# Altium schematic symbol library ubloxLib.SchLib: 59 symbols (part 2 of 2)
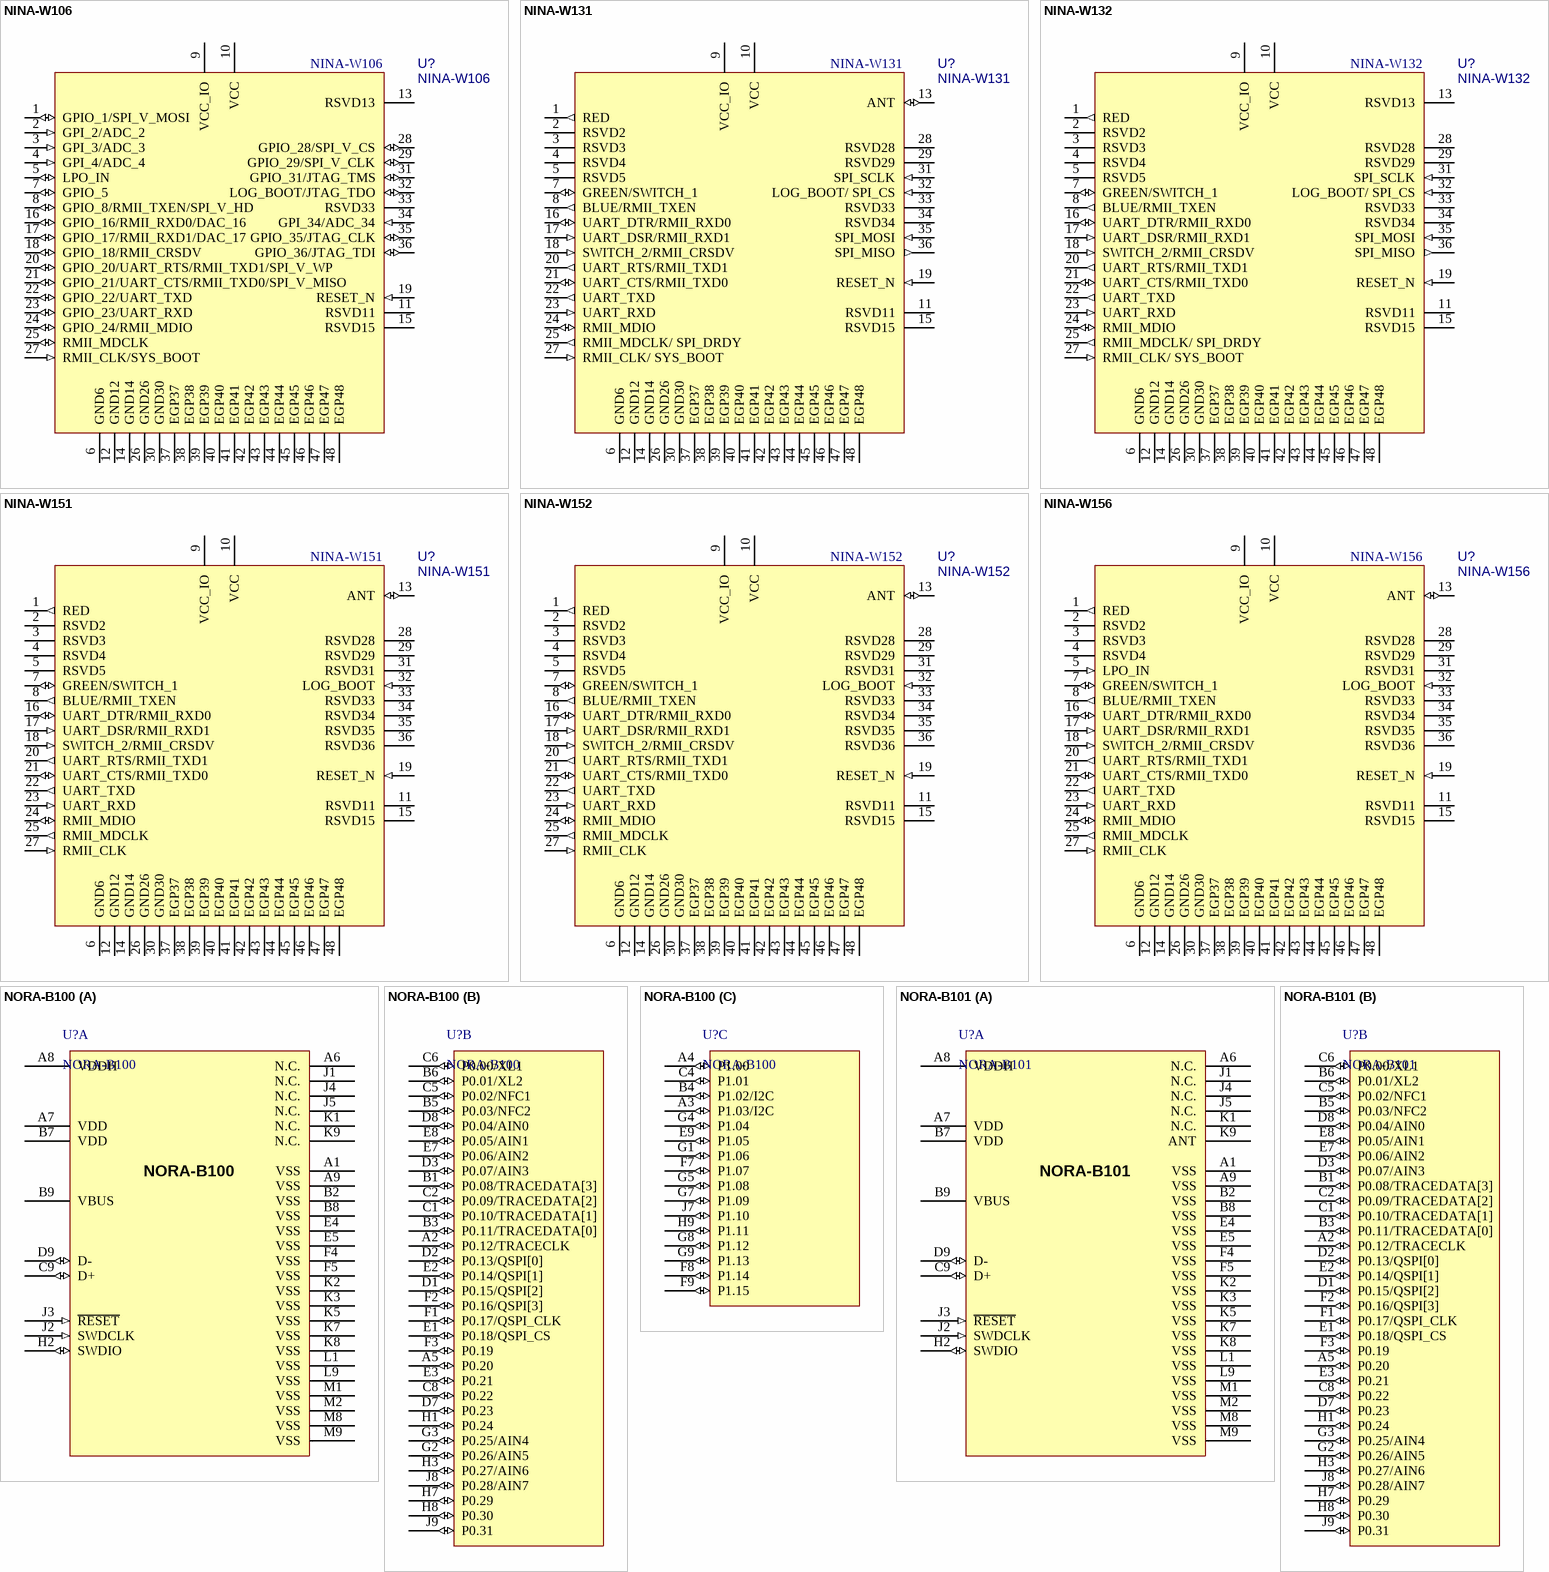
[diagram p10: symbols NINA-W106 to NORA-B101]

## NINA-W132
designator U?
u-blox NINA-W1312WiFi module; Part Description: Stand-alone Bluetooth low energy module; Manufacturer: u-blox; Value: NINA-W132
footprint NINA_LGA48R_1400X1000X380_PIFA (Stand-alone Bluetooth low energy module)
pins: 1 RED (out), 2 RSVD2, 3 RSVD3, 4 RSVD4, 5 RSVD5, 6 GND6 (power), 7 GREEN/SWITCH_1 (io), 8 BLUE/RMII_TXEN (out), 9 VCC_IO (power), 10 VCC (power), 11 RSVD11, 12 GND12 (power), 13 RSVD13, 14 GND14 (power), 15 RSVD15, 16 UART_DTR/RMII_RXD0 (io), 17 UART_DSR/RMII_RXD1 (in), 18 SWITCH_2/RMII_CRSDV (in), 19 RESET_N (in), 20 UART_RTS/RMII_TXD1 (out), 21 UART_CTS/RMII_TXD0 (io), 22 UART_TXD (out), 23 UART_RXD (in), 24 RMII_MDIO (io), 25 RMII_MDCLK/ SPI_DRDY (out), 26 GND26 (power), 27 RMII_CLK/ SYS_BOOT (in), 28 RSVD28, 29 RSVD29, 30 GND30 (power), 31 SPI_SCLK (in), 32 LOG_BOOT/ SPI_CS (in), 33 RSVD33, 34 RSVD34, 35 SPI_MOSI (in), 36 SPI_MISO (out), 37 EGP37 (power), 38 EGP38 (power), 39 EGP39 (power), 40 EGP40 (power), 41 EGP41 (power), 42 EGP42 (power), 43 EGP43 (power), 44 EGP44 (power), 45 EGP45 (power), 46 EGP46 (power), 47 EGP47 (power), 48 EGP48 (power)

## NINA-W151
designator U?
u-blox NINA-W151 WiFi, Bluetooth dual-mode module; Part Description: Stand-alone Bluetooth low energy module; Manufacturer: u-blox; Value: NINA-W151
footprint NINA_LGA48R_1060X1000X220_PIN (Stand-alone Bluetooth low energy module)
pins: 1 RED (out), 2 RSVD2, 3 RSVD3, 4 RSVD4, 5 RSVD5, 6 GND6 (power), 7 GREEN/SWITCH_1 (io), 8 BLUE/RMII_TXEN (out), 9 VCC_IO (power), 10 VCC (power), 11 RSVD11, 12 GND12 (power), 13 ANT (io), 14 GND14 (power), 15 RSVD15, 16 UART_DTR/RMII_RXD0 (io), 17 UART_DSR/RMII_RXD1 (in), 18 SWITCH_2/RMII_CRSDV (in), 19 RESET_N (in), 20 UART_RTS/RMII_TXD1 (out), 21 UART_CTS/RMII_TXD0 (io), 22 UART_TXD (out), 23 UART_RXD (in), 24 RMII_MDIO (io), 25 RMII_MDCLK (out), 26 GND26 (power), 27 RMII_CLK (in), 28 RSVD28, 29 RSVD29, 30 GND30 (power), 31 RSVD31, 32 LOG_BOOT (in), 33 RSVD33, 34 RSVD34, 35 RSVD35, 36 RSVD36, 37 EGP37 (power), 38 EGP38 (power), 39 EGP39 (power), 40 EGP40 (power), 41 EGP41 (power), 42 EGP42 (power), 43 EGP43 (power), 44 EGP44 (power), 45 EGP45 (power), 46 EGP46 (power), 47 EGP47 (power), 48 EGP48 (power)

## NINA-W152
designator U?
u-blox NINA-W152 WiFi, Bluetooth dual-mode module; Part Description: Stand-alone Bluetooth low energy module; Manufacturer: u-blox; Value: NINA-W152
footprint NINA_LGA48R_1400X1000X380_PIFA (Stand-alone Bluetooth low energy module)
pins: 1 RED (out), 2 RSVD2, 3 RSVD3, 4 RSVD4, 5 RSVD5, 6 GND6 (power), 7 GREEN/SWITCH_1 (io), 8 BLUE/RMII_TXEN (out), 9 VCC_IO (power), 10 VCC (power), 11 RSVD11, 12 GND12 (power), 13 ANT (io), 14 GND14 (power), 15 RSVD15, 16 UART_DTR/RMII_RXD0 (io), 17 UART_DSR/RMII_RXD1 (in), 18 SWITCH_2/RMII_CRSDV (in), 19 RESET_N (in), 20 UART_RTS/RMII_TXD1 (out), 21 UART_CTS/RMII_TXD0 (io), 22 UART_TXD (out), 23 UART_RXD (in), 24 RMII_MDIO (io), 25 RMII_MDCLK (out), 26 GND26 (power), 27 RMII_CLK (in), 28 RSVD28, 29 RSVD29, 30 GND30 (power), 31 RSVD31, 32 LOG_BOOT (in), 33 RSVD33, 34 RSVD34, 35 RSVD35, 36 RSVD36, 37 EGP37 (power), 38 EGP38 (power), 39 EGP39 (power), 40 EGP40 (power), 41 EGP41 (power), 42 EGP42 (power), 43 EGP43 (power), 44 EGP44 (power), 45 EGP45 (power), 46 EGP46 (power), 47 EGP47 (power), 48 EGP48 (power)

## NINA-W156
designator U?
u-blox NINA-W156 WiFi, Bluetooth dual-mode module; Part Description: Stand-alone Bluetooth low energy module; Manufacturer: u-blox; Value: NINA-W156
footprint NINA_LGA48R_1400X1000X380_PIFA (Stand-alone Bluetooth low energy module)
pins: 1 RED (out), 2 RSVD2, 3 RSVD3, 4 RSVD4, 5 LPO_IN (in), 6 GND6 (power), 7 GREEN/SWITCH_1 (io), 8 BLUE/RMII_TXEN (out), 9 VCC_IO (power), 10 VCC (power), 11 RSVD11, 12 GND12 (power), 13 ANT (io), 14 GND14 (power), 15 RSVD15, 16 UART_DTR/RMII_RXD0 (io), 17 UART_DSR/RMII_RXD1 (in), 18 SWITCH_2/RMII_CRSDV (in), 19 RESET_N (in), 20 UART_RTS/RMII_TXD1 (out), 21 UART_CTS/RMII_TXD0 (io), 22 UART_TXD (out), 23 UART_RXD (in), 24 RMII_MDIO (io), 25 RMII_MDCLK (out), 26 GND26 (power), 27 RMII_CLK (in), 28 RSVD28, 29 RSVD29, 30 GND30 (power), 31 RSVD31, 32 LOG_BOOT (in), 33 RSVD33, 34 RSVD34, 35 RSVD35, 36 RSVD36, 37 EGP37 (power), 38 EGP38 (power), 39 EGP39 (power), 40 EGP40 (power), 41 EGP41 (power), 42 EGP42 (power), 43 EGP43 (power), 44 EGP44 (power), 45 EGP45 (power), 46 EGP46 (power), 47 EGP47 (power), 48 EGP48 (power)

## NORA-B100
designator U?
u-blox NORA-B100 Bluetooth 5.2 LE module - dual core; Manufacturer P/N: NORA-B100-00B; Part Description: Stand-alone Bluetooth low energy module - dual core; Body Size: 14.3 mm x 10.4 mm; Part Number: NORA-B100; Part Name: NORA-B100; Part_Type: Module; Manufacturer: u-blox; Height: 1.8 mm; Value: NORA-B100
footprint NORA_LGA82R_1430X1040X180_UFL (NORA LGA, 82pin ,1.1mm Pitch, 14.3mm x 10.4mm)
part A pins: A1 VSS (power), A6 N.C. (hiz), A7 VDD (power), A8 VDDH (power), A9 VSS (power), B2 VSS (power), B7 VDD (power), B8 VSS (power), B9 VBUS (power), C9 D+ (io), D9 D- (io), E4 VSS (power), E5 VSS (power), F4 VSS (power), F5 VSS (power), H2 SWDIO (io), J1 N.C. (hiz), J2 SWDCLK (in), J3 ~{RESET} (in), J4 N.C. (hiz), J5 N.C. (hiz), K1 N.C. (hiz), K2 VSS (power), K3 VSS (power), K5 VSS (power), K7 VSS (power), K8 VSS (power), K9 N.C. (hiz), L1 VSS (power), L9 VSS (power), M1 VSS (power), M2 VSS (power), M8 VSS (power), M9 VSS (power)
part B pins: A2 P0.12/TRACECLK (io), A5 P0.20 (io), B1 P0.08/TRACEDATA[3] (io), B3 P0.11/TRACEDATA[0] (io), B5 P0.03/NFC2 (io), B6 P0.01/XL2 (io), C1 P0.10/TRACEDATA[1] (io), C2 P0.09/TRACEDATA[2] (io), C5 P0.02/NFC1 (io), C6 P0.00/XL1 (io), C8 P0.22 (io), D1 P0.15/QSPI[2] (io), D2 P0.13/QSPI[0] (io), D3 P0.07/AIN3 (io), D7 P0.23 (io), D8 P0.04/AIN0 (io), E1 P0.18/QSPI_CS (io), E2 P0.14/QSPI[1] (io), E3 P0.21 (io), E7 P0.06/AIN2 (io), E8 P0.05/AIN1 (io), F1 P0.17/QSPI_CLK (io), F2 P0.16/QSPI[3] (io), F3 P0.19 (io), G2 P0.26/AIN5 (io), G3 P0.25/AIN4 (io), H1 P0.24 (io), H3 P0.27/AIN6 (io), H7 P0.29 (io), H8 P0.30 (io), J8 P0.28/AIN7 (io), J9 P0.31 (io)
part C pins: A3 P1.03/I2C (io), A4 P1.00 (io), B4 P1.02/I2C (io), C4 P1.01 (io), E9 P1.05 (io), F7 P1.07 (io), F8 P1.14 (io), F9 P1.15 (io), G1 P1.06 (io), G4 P1.04 (io), G5 P1.08 (io), G7 P1.09 (io), G8 P1.12 (io), G9 P1.13 (io), H9 P1.11 (io), J7 P1.10 (io)

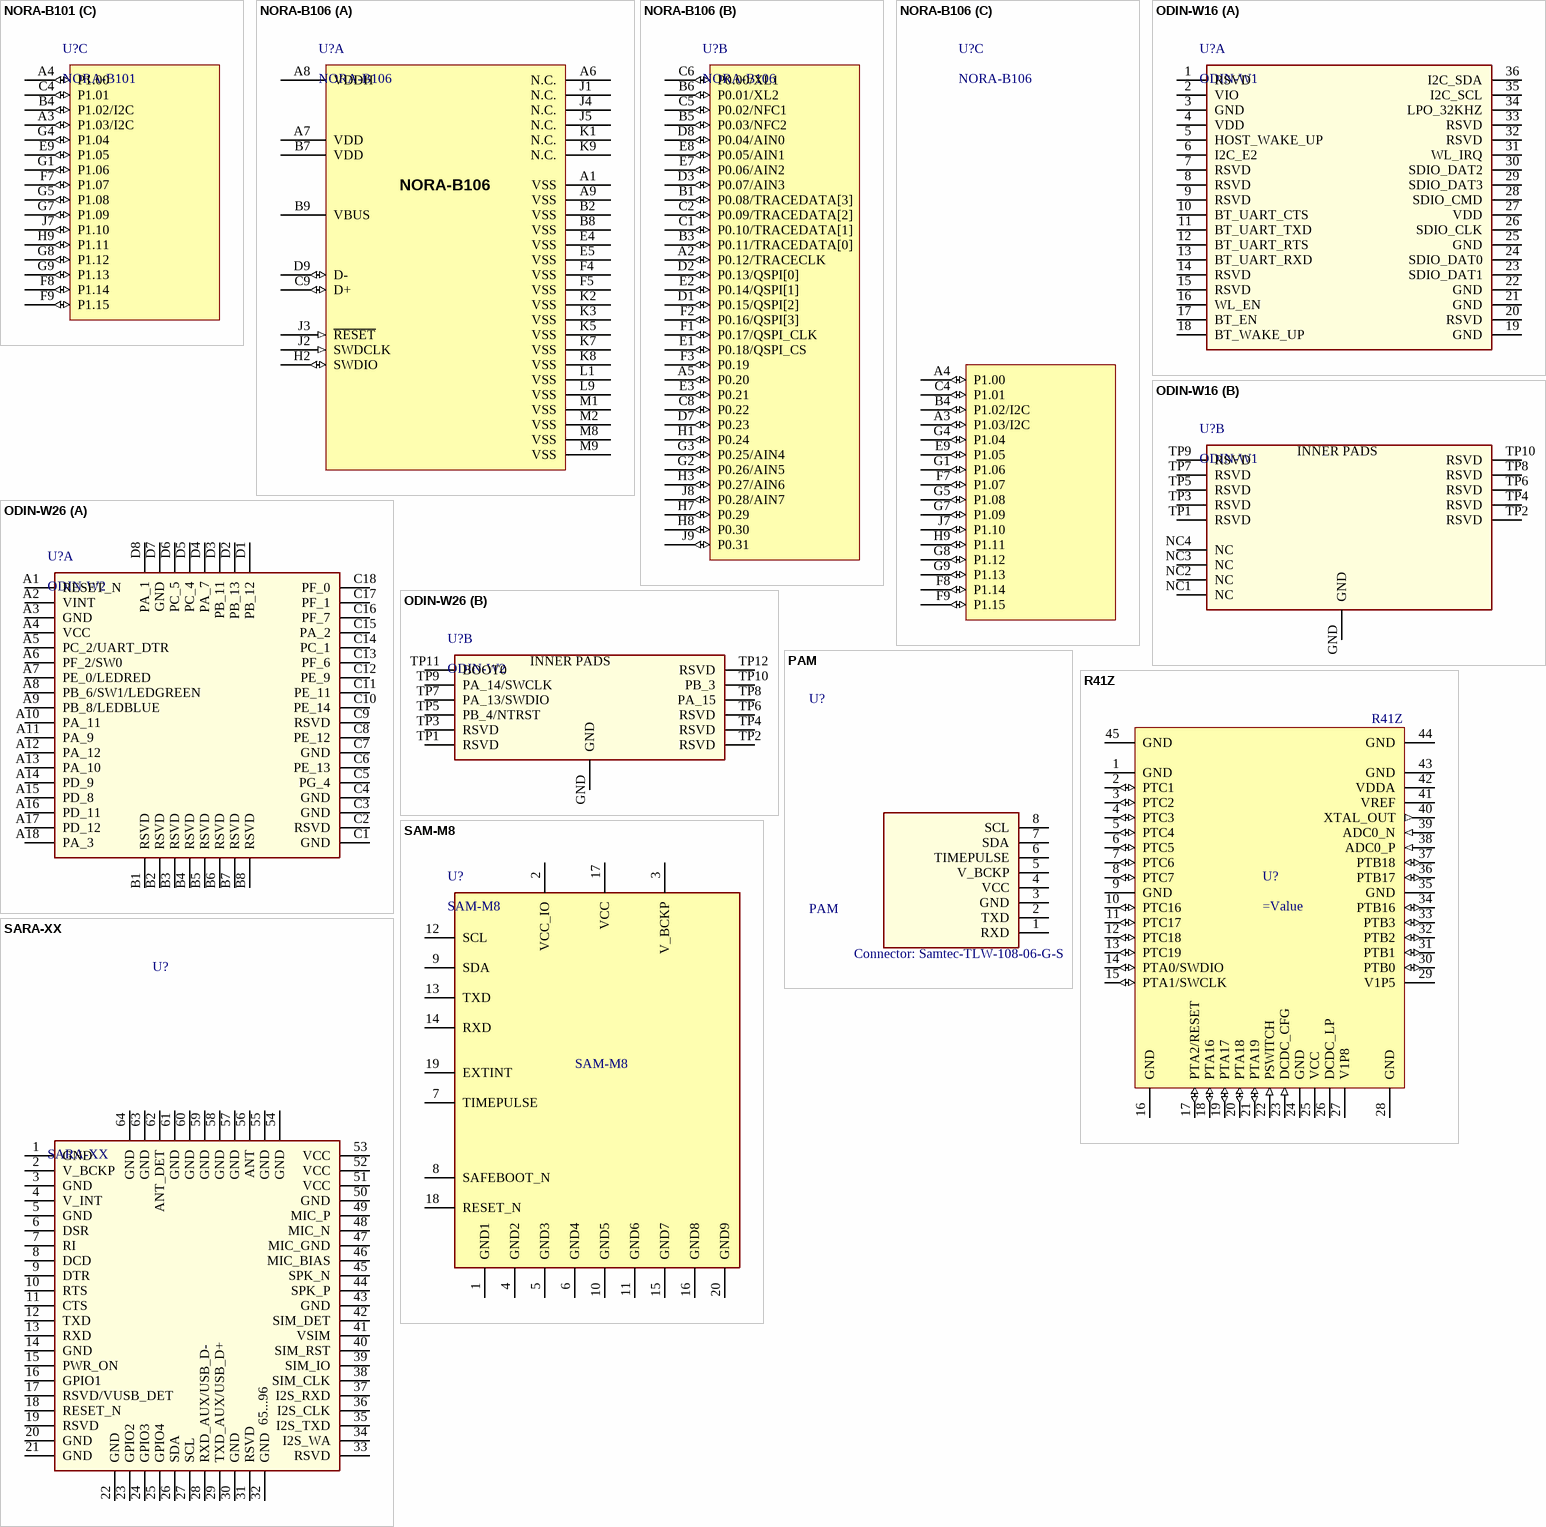
[diagram p8: symbols NORA-B101 to SARA-XX]

## NORA-B101
designator U?
u-blox NORA-B101 Bluetooth 5.2 LE module - dual core; Manufacturer P/N: NORA-B101-00B; Part Description: Stand-alone Bluetooth low energy module - dual-core; Body Size: 14.3 mm x 10.4 mm; Part Number: NORA-B101; Part Name: NORA-B101; Part_Type: Module; Manufacturer: u-blox; Height: 1.8 mm; Value: NORA-B101
footprint NORA_LGA82R_1430X1040X180_PIN (NORA LGA, 82pin ,1.1mm Pitch, 14.3mm x 10.4mm)
part A pins: A1 VSS (power), A6 N.C. (hiz), A7 VDD (power), A8 VDDH (power), A9 VSS (power), B2 VSS (power), B7 VDD (power), B8 VSS (power), B9 VBUS (power), C9 D+ (io), D9 D- (io), E4 VSS (power), E5 VSS (power), F4 VSS (power), F5 VSS (power), H2 SWDIO (io), J1 N.C. (hiz), J2 SWDCLK (in), J3 ~{RESET} (in), J4 N.C. (hiz), J5 N.C. (hiz), K1 N.C. (hiz), K2 VSS (power), K3 VSS (power), K5 VSS (power), K7 VSS (power), K8 VSS (power), K9 ANT (hiz), L1 VSS (power), L9 VSS (power), M1 VSS (power), M2 VSS (power), M8 VSS (power), M9 VSS (power)
part B pins: A2 P0.12/TRACECLK (io), A5 P0.20 (io), B1 P0.08/TRACEDATA[3] (io), B3 P0.11/TRACEDATA[0] (io), B5 P0.03/NFC2 (io), B6 P0.01/XL2 (io), C1 P0.10/TRACEDATA[1] (io), C2 P0.09/TRACEDATA[2] (io), C5 P0.02/NFC1 (io), C6 P0.00/XL1 (io), C8 P0.22 (io), D1 P0.15/QSPI[2] (io), D2 P0.13/QSPI[0] (io), D3 P0.07/AIN3 (io), D7 P0.23 (io), D8 P0.04/AIN0 (io), E1 P0.18/QSPI_CS (io), E2 P0.14/QSPI[1] (io), E3 P0.21 (io), E7 P0.06/AIN2 (io), E8 P0.05/AIN1 (io), F1 P0.17/QSPI_CLK (io), F2 P0.16/QSPI[3] (io), F3 P0.19 (io), G2 P0.26/AIN5 (io), G3 P0.25/AIN4 (io), H1 P0.24 (io), H3 P0.27/AIN6 (io), H7 P0.29 (io), H8 P0.30 (io), J8 P0.28/AIN7 (io), J9 P0.31 (io)
part C pins: A3 P1.03/I2C (io), A4 P1.00 (io), B4 P1.02/I2C (io), C4 P1.01 (io), E9 P1.05 (io), F7 P1.07 (io), F8 P1.14 (io), F9 P1.15 (io), G1 P1.06 (io), G4 P1.04 (io), G5 P1.08 (io), G7 P1.09 (io), G8 P1.12 (io), G9 P1.13 (io), H9 P1.11 (io), J7 P1.10 (io)

## NORA-B106
designator U?
u-blox NORA-B106 Bluetooth 5.2 LE module - dual core; Manufacturer P/N: NORA-B106-00B; Part Description: Stand-alone Bluetooth low energy module - dual core; Body Size: 14.3 mm x 10.4 mm; Part Number: NORA-B106; Part Name: NORA-B106; Part_Type: Module; Manufacturer: u-blox; Height: 1.8 mm; Value: NORA-B106
footprint NORA_LGA82R_1430X1040X180_ANT (NORA LGA, 82pin ,1.1mm Pitch, 14.3mm x 10.4mm)
part A pins: A1 VSS (power), A6 N.C. (hiz), A7 VDD (power), A8 VDDH (power), A9 VSS (power), B2 VSS (power), B7 VDD (power), B8 VSS (power), B9 VBUS (power), C9 D+ (io), D9 D- (io), E4 VSS (power), E5 VSS (power), F4 VSS (power), F5 VSS (power), H2 SWDIO (io), J1 N.C. (hiz), J2 SWDCLK (in), J3 ~{RESET} (in), J4 N.C. (hiz), J5 N.C. (hiz), K1 N.C. (hiz), K2 VSS (power), K3 VSS (power), K5 VSS (power), K7 VSS (power), K8 VSS (power), K9 N.C. (hiz), L1 VSS (power), L9 VSS (power), M1 VSS (power), M2 VSS (power), M8 VSS (power), M9 VSS (power)
part B pins: A2 P0.12/TRACECLK (io), A5 P0.20 (io), B1 P0.08/TRACEDATA[3] (io), B3 P0.11/TRACEDATA[0] (io), B5 P0.03/NFC2 (io), B6 P0.01/XL2 (io), C1 P0.10/TRACEDATA[1] (io), C2 P0.09/TRACEDATA[2] (io), C5 P0.02/NFC1 (io), C6 P0.00/XL1 (io), C8 P0.22 (io), D1 P0.15/QSPI[2] (io), D2 P0.13/QSPI[0] (io), D3 P0.07/AIN3 (io), D7 P0.23 (io), D8 P0.04/AIN0 (io), E1 P0.18/QSPI_CS (io), E2 P0.14/QSPI[1] (io), E3 P0.21 (io), E7 P0.06/AIN2 (io), E8 P0.05/AIN1 (io), F1 P0.17/QSPI_CLK (io), F2 P0.16/QSPI[3] (io), F3 P0.19 (io), G2 P0.26/AIN5 (io), G3 P0.25/AIN4 (io), H1 P0.24 (io), H3 P0.27/AIN6 (io), H7 P0.29 (io), H8 P0.30 (io), J8 P0.28/AIN7 (io), J9 P0.31 (io)
part C pins: A3 P1.03/I2C (io), A4 P1.00 (io), B4 P1.02/I2C (io), C4 P1.01 (io), E9 P1.05 (io), F7 P1.07 (io), F8 P1.14 (io), F9 P1.15 (io), G1 P1.06 (io), G4 P1.04 (io), G5 P1.08 (io), G7 P1.09 (io), G8 P1.12 (io), G9 P1.13 (io), H9 P1.11 (io), J7 P1.10 (io)

## ODIN-W16
designator U?, comment ODIN-W1
u-blox ODIN-W16 host-based multiradio module with Wi-Fi and Bluetooth; Manufacturer: u-blox; Part Description: Host-based multiradio module with Wi-Fi and Bluetooth; Value: ODIN-W1
footprint ODIN-W16 (ODIN-W16 WiFi/BT module)
part A pins: 1 RSVD, 2 VIO, 3 GND, 4 VDD, 5 HOST_WAKE_UP, 6 I2C_E2, 7 RSVD, 8 RSVD, 9 RSVD, 10 BT_UART_CTS, 11 BT_UART_TXD, 12 BT_UART_RTS, 13 BT_UART_RXD, 14 RSVD, 15 RSVD, 16 WL_EN, 17 BT_EN, 18 BT_WAKE_UP, 19 GND, 20 RSVD, 21 GND, 22 GND, 23 SDIO_DAT1, 24 SDIO_DAT0, 25 GND, 26 SDIO_CLK, 27 VDD, 28 SDIO_CMD, 29 SDIO_DAT3, 30 SDIO_DAT2, 31 WL_IRQ, 32 RSVD, 33 RSVD, 34 LPO_32KHZ, 35 I2C_SCL, 36 I2C_SDA
part B pins: GND, NC1 NC, NC2 NC, NC3 NC, NC4 NC, TP1 RSVD, TP2 RSVD, TP3 RSVD, TP4 RSVD, TP5 RSVD, TP6 RSVD, TP7 RSVD, TP8 RSVD, TP9 RSVD, TP10 RSVD
1 alternate drawing of the same symbol
part B text: INNER PADS

## ODIN-W26
designator U?, comment ODIN-W2
u-blox ODIN-W26 host-based multiradio module with Wi-Fi and Bluetooth; Part Description: Stand-alone multiradio module with Wi-Fi & Bluetooth; Manufacturer: u-blox; Value: ODIN-W2
footprint ODIN-W26 (ODIN-W262 WiFi/BT  module)
part A pins: A1 RESET_N, A2 VINT, A3 GND, A4 VCC, A5 PC_2/UART_DTR, A6 PF_2/SW0, A7 PE_0/LEDRED, A8 PB_6/SW1/LEDGREEN, A9 PB_8/LEDBLUE, A10 PA_11, A11 PA_9, A12 PA_12, A13 PA_10, A14 PD_9, A15 PD_8, A16 PD_11, A17 PD_12, A18 PA_3, B1 RSVD, B2 RSVD, B3 RSVD, B4 RSVD, B5 RSVD, B6 RSVD, B7 RSVD, B8 RSVD, C1 GND, C2 RSVD, C3 GND, C4 GND, C5 PG_4, C6 PE_13, C7 GND, C8 PE_12, C9 RSVD, C10 PE_14, C11 PE_11, C12 PE_9, C13 PF_6, C14 PC_1, C15 PA_2, C16 PF_7, C17 PF_1, C18 PF_0, D1 PB_12, D2 PB_13, D3 PB_11, D4 PA_7, D5 PC_4, D6 PC_5, D7 GND, D8 PA_1
part B pins: GND, TP1 RSVD, TP2 RSVD, TP3 RSVD, TP4 RSVD, TP5 PB_4/NTRST, TP6 RSVD, TP7 PA_13/SWDIO, TP8 PA_15, TP9 PA_14/SWCLK, TP10 PB_3, TP11 BOOT0, TP12 RSVD
part B text: INNER PADS

## PAM
designator U?  Connector: Samtec-TLW-108-06-G-S
u-blox PAM GNSS antenna module; Manufacturer: u-blox; Part Description: u-blox PAM GNSS antenna module; Value: PAM
footprint PAM (u-blox PAM antenna module)
pins: 1 RXD, 2 TXD, 3 GND, 4 VCC, 5 V_BCKP, 6 TIMEPULSE, 7 SDA, 8 SCL

## R41Z
designator U?  Part Number: R41Z
u-blox R41Z Bluetooth 4.2 LE, 802.15.4 module; Manufacturer P/N: R41Z-TA-R; Body Size: 15.2mmx10.6mm; Internal Antenna: Yes; RF Protocol: BT 4.2 LE, 802.15.4, 2.4GHz Proprietary; Height: 2.1mm; Manufacturer: u-blox
footprint R41Z_LGA45S_1620X1060X210_PCB (LGA, 45pin, 1.1mm Pitch, 1.2mm x 10.6mm)
pins: 1 GND (power), 2 PTC1 (io), 3 PTC2 (io), 4 PTC3 (io), 5 PTC4 (io), 6 PTC5 (io), 7 PTC6 (io), 8 PTC7 (io), 9 GND (power), 10 PTC16 (io), 11 PTC17 (io), 12 PTC18 (io), 13 PTC19 (io), 14 PTA0/SWDIO (io), 15 PTA1/SWCLK (io), 16 GND (power), 17 PTA2/RESET (io), 18 PTA16 (io), 19 PTA17 (io), 20 PTA18 (io), 21 PTA19 (io), 22 PSWITCH (in), 23 DCDC_CFG (in), 24 GND (power), 25 VCC (power), 26 DCDC_LP (power), 27 V1P8 (power), 28 GND (power), 29 V1P5 (power), 30 PTB0 (io), 31 PTB1 (io), 32 PTB2 (io), 33 PTB3 (io), 34 PTB16 (io), 35 GND (power), 36 PTB17 (io), 37 PTB18 (io), 38 ADC0_P (in), 39 ADC0_N (in), 40 XTAL_OUT (out), 41 VREF (power), 42 VDDA (power), 43 GND (power), 44 GND (power), 45 GND (power)

## SAM-M8
designator U?
u-blox SAM GNSS antenna module; Manufacturer: u-blox; Part Description: u-blox SAM GNSS antenna module; Value: SAM-M8
footprint SAM-M8 (ublox SAM antenna module)
pins: 1 GND1, 2 VCC_IO, 3 V_BCKP, 4 GND2, 5 GND3, 6 GND4, 7 TIMEPULSE, 8 SAFEBOOT_N, 9 SDA, 10 GND5, 11 GND6, 12 SCL, 13 TXD, 14 RXD, 15 GND7, 16 GND8, 17 VCC, 18 RESET_N, 19 EXTINT, 20 GND9

## SARA-XX
designator U?
u-blox SARA-xx GSM/GPRS and GSM/EGPRS/HSPA Cellular Module; Part Description: GSM/EGPRS/HSPA module; Manufacturer: u-blox; Value: SARA-XX
footprint SARA-XX (GSM/GPRS and GSM/EGPRS/HSPA   Cellular Module)
pins: 1 GND, 2 V_BCKP, 3 GND, 4 V_INT, 5 GND, 6 DSR, 7 RI, 8 DCD, 9 DTR, 10 RTS, 11 CTS, 12 TXD, 13 RXD, 14 GND, 15 PWR_ON, 16 GPIO1, 17 RSVD/VUSB_DET, 18 RESET_N, 19 RSVD, 20 GND, 21 GND, 22 GND, 23 GPIO2, 24 GPIO3, 25 GPIO4, 26 SDA, 27 SCL, 28 RXD_AUX/USB_D-, 29 TXD_AUX/USB_D+, 30 GND, 31 RSVD, 32 GND, 33 RSVD, 34 I2S_WA, 35 I2S_TXD, 36 I2S_CLK, 37 I2S_RXD, 38 SIM_CLK, 39 SIM_IO, 40 SIM_RST, 41 VSIM, 42 SIM_DET, 43 GND, 44 SPK_P, 45 SPK_N, 46 MIC_BIAS, 47 MIC_GND, 48 MIC_N, 49 MIC_P, 50 GND, 51 VCC, 52 VCC, 53 VCC, 54 GND, 55 GND, 56 ANT, 57 GND, 58 GND, 59 GND, 60 GND, 61 GND, 62 ANT_DET, 63 GND, 64 GND, 65 GND, 66 GND, 67 GND, 68 GND, 69 GND, 70 GND, 71 GND, 72 GND, 73 GND, 74 GND, 75 GND, 76 GND, 77 GND, 78 GND, 79 GND, 80 GND, 81 GND, 82 GND, 83 GND, 84 GND, 85 GND, 86 GND, 87 GND, 88 GND, 89 GND, 90 GND, 91 GND, 92 GND, 93 GND, 94 GND, 95 GND, 96 GND
text: 65...96

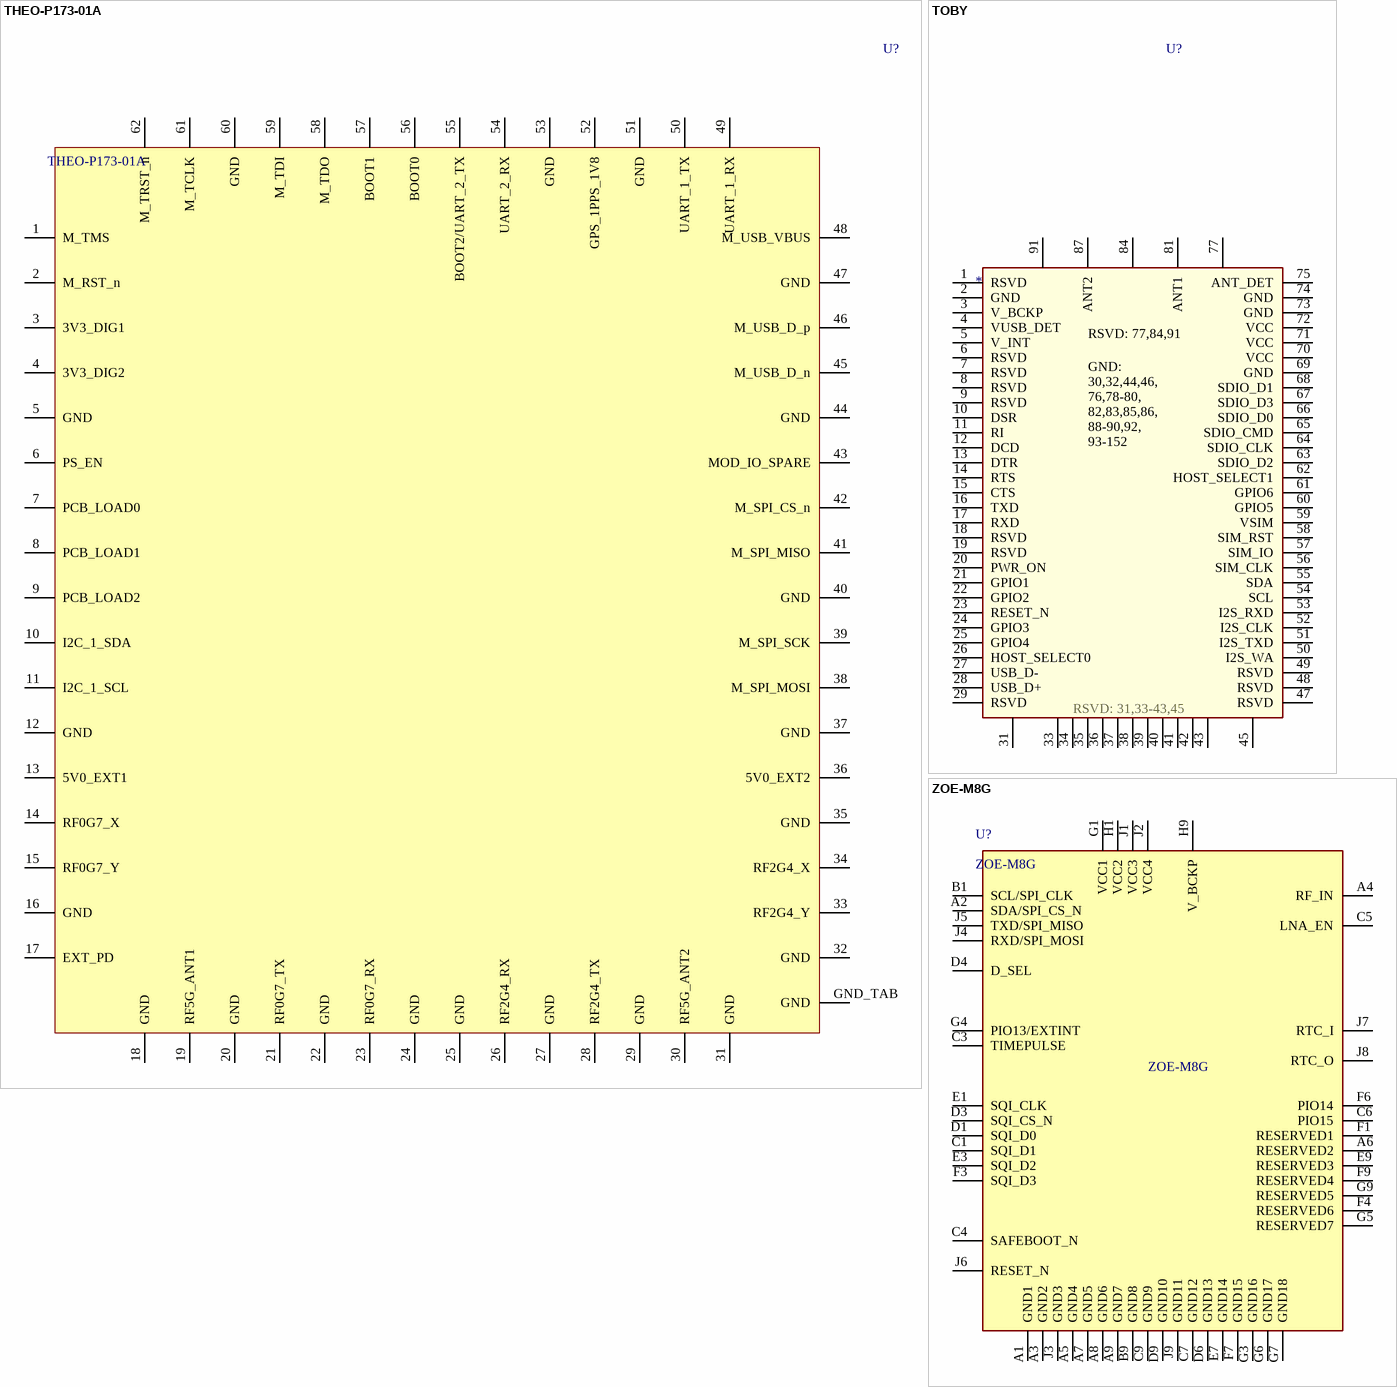
[diagram p9: symbols THEO-P173-01A to ZOE-M8G]

## THEO-P173-01A
designator U?
u-blox THEO-P173 host-based V2X transceiver module; Part Description: Host-based V2X transceiver module; Manufacturer: u-blox; Value: THEO-P173-01A
footprint THEO-P173-01A (Host-based V2X transceiver module)
pins: 1 M_TMS, 2 M_RST_n, 3 3V3_DIG1 (power), 4 3V3_DIG2 (power), 5 GND (power), 6 PS_EN, 7 PCB_LOAD0, 8 PCB_LOAD1, 9 PCB_LOAD2, 10 I2C_1_SDA, 11 I2C_1_SCL, 12 GND (power), 13 5V0_EXT1 (power), 14 RF0G7_X, 15 RF0G7_Y, 16 GND (power), 17 EXT_PD (power), 18 GND (power), 19 RF5G_ANT1, 20 GND (power), 21 RF0G7_TX, 22 GND (power), 23 RF0G7_RX, 24 GND (power), 25 GND (power), 26 RF2G4_RX, 27 GND (power), 28 RF2G4_TX, 29 GND (power), 30 RF5G_ANT2, 31 GND (power), 32 GND (power), 33 RF2G4_Y, 34 RF2G4_X, 35 GND (power), 36 5V0_EXT2 (power), 37 GND (power), 38 M_SPI_MOSI, 39 M_SPI_SCK, 40 GND (power), 41 M_SPI_MISO, 42 M_SPI_CS_n, 43 MOD_IO_SPARE, 44 GND (power), 45 M_USB_D_n, 46 M_USB_D_p, 47 GND (power), 48 M_USB_VBUS, 49 UART_1_RX, 50 UART_1_TX, 51 GND (power), 52 GPS_1PPS_1V8, 53 GND (power), 54 UART_2_RX, 55 BOOT2/UART_2_TX, 56 BOOT0, 57 BOOT1, 58 M_TDO, 59 M_TDI, 60 GND (power), 61 M_TCLK, 62 M_TRST_n, GND_TAB GND (power)

## TOBY
designator U?
u-blox TOBY cellular modems; Manufacturer: u-blox; Part Manufacturer: *; Value: *
footprint TOBY (TOBY cellular module)
pins: 1 RSVD, 2 GND, 3 V_BCKP, 4 VUSB_DET, 5 V_INT, 6 RSVD, 7 RSVD, 8 RSVD, 9 RSVD, 10 DSR, 11 RI, 12 DCD, 13 DTR, 14 RTS, 15 CTS, 16 TXD, 17 RXD, 18 RSVD, 19 RSVD, 20 PWR_ON, 21 GPIO1, 22 GPIO2, 23 RESET_N, 24 GPIO3, 25 GPIO4, 26 HOST_SELECT0, 27 USB_D-, 28 USB_D+, 29 RSVD, 30 GND, 31 RSVD, 32 GND, 33 RSVD, 34 RSVD, 35 RSVD, 36 RSVD, 37 RSVD, 38 RSVD, 39 RSVD, 40 RSVD, 41 RSVD, 42 RSVD, 43 RSVD, 44, 45 RSVD, 46, 47 RSVD, 48 RSVD, 49 RSVD, 50 I2S_WA, 51 I2S_TXD, 52 I2S_CLK, 53 I2S_RXD, 54 SCL, 55 SDA, 56 SIM_CLK, 57 SIM_IO, 58 SIM_RST, 59 VSIM, 60 GPIO5, 61 GPIO6, 62 HOST_SELECT1, 63 SDIO_D2, 64 SDIO_CLK, 65 SDIO_CMD, 66 SDIO_D0, 67 SDIO_D3, 68 SDIO_D1, 69 GND, 70 VCC, 71 VCC, 72 VCC, 73 GND, 74 GND, 75 ANT_DET, 76 155, 77 RSVD, 78 156, 79 GND, 80 GND, 81 ANT1, 82 44, 83 46, 84 RSVD, 85 155, 86 156, 87 ANT2, 88 157, 89 157, 90 157, 91 RSVD, 92 GND, 93 GND, 94 GND, 95 GND, 96 GND, 97 GND, 98 GND, 99 GND, 100 GND, 101 GND, 102 GND, 103 GND, 104 GND, 105 GND, 106 GND, 107 GND, 108 GND, 109 GND, 110 GND, 111 GND, 112 GND, 113 GND, 114 GND, 115 GND, 116 GND, 117 GND, 118 GND, 119 GND, 120 GND, 121 GND, 122 GND, 123 GND, 124 GND, 125 GND, 126 GND, 127 GND, 128 GND, 129 GND, 130 GND, 131 GND, 132 GND, 133 GND, 134 GND, 135 GND, 136 GND, 137 GND, 138 GND, 139 GND, 140 GND, 141 GND, 142 GND, 143 GND, 144 GND, 145 GND, 146 GND, 147 GND, 148 GND, 149 GND, 150 GND, 151 GND, 152 GND
text: RSVD: 77,84,91; GND: / 30,32,44,46, / 76,78-80, / 82,83,85,86, / 88-90,92, / 93-152; RSVD: 31,33-43,45

## ZOE-M8G
designator U?
u-blox ZOE GNSS module; Part Description: u-blox ZOE-M8G GNSS module; Manufacturer: u-blox; Value: ZOE-M8G
footprint ZOE-M8G
pins: A1 GND1, A2 SDA/SPI_CS_N, A3 GND2, A4 RF_IN, A5 GND4, A6 RESERVED2, A7 GND5, A8 GND6, A9 GND7, B1 SCL/SPI_CLK, B9 GND8, C1 SQI_D1, C3 TIMEPULSE, C4 SAFEBOOT_N, C5 LNA_EN, C6 PIO15, C7 GND12, C9 GND9, D1 SQI_D0, D3 SQI_CS_N, D4 D_SEL, D6 GND13, D9 GND10, E1 SQI_CLK, E3 SQI_D2, E7 GND14, E9 RESERVED3, F1 RESERVED1, F3 SQI_D3, F4 RESERVED6, F6 PIO14, F7 GND15, F9 RESERVED4, G1 VCC1, G3 GND16, G4 PIO13/EXTINT, G5 RESERVED7, G6 GND17, G7 GND18, G9 RESERVED5, H1 VCC2, H9 V_BCKP, J1 VCC3, J2 VCC4, J3 GND3, J4 RXD/SPI_MOSI, J5 TXD/SPI_MISO, J6 RESET_N, J7 RTC_I, J8 RTC_O, J9 GND11